# Altium schematic symbol library SD_card.SchLib: 1 symbol
Pins are listed as number, name and electrical type; pins without a type are passive.

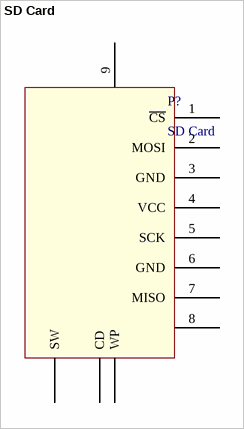
[diagram p0: symbol SD Card]

## SD Card
designator P?
footprint SD_CARD
pins: 1 ~{CS}, 2 MOSI, 3 GND, 4 VCC, 5 SCK, 6 GND, 7 MISO, 8, 9, CD, SW, WP